# Altium schematic symbol library Microcontrollers$.SchLib: 16 symbols
Pins are listed as number, name and electrical type; pins without a type are passive.

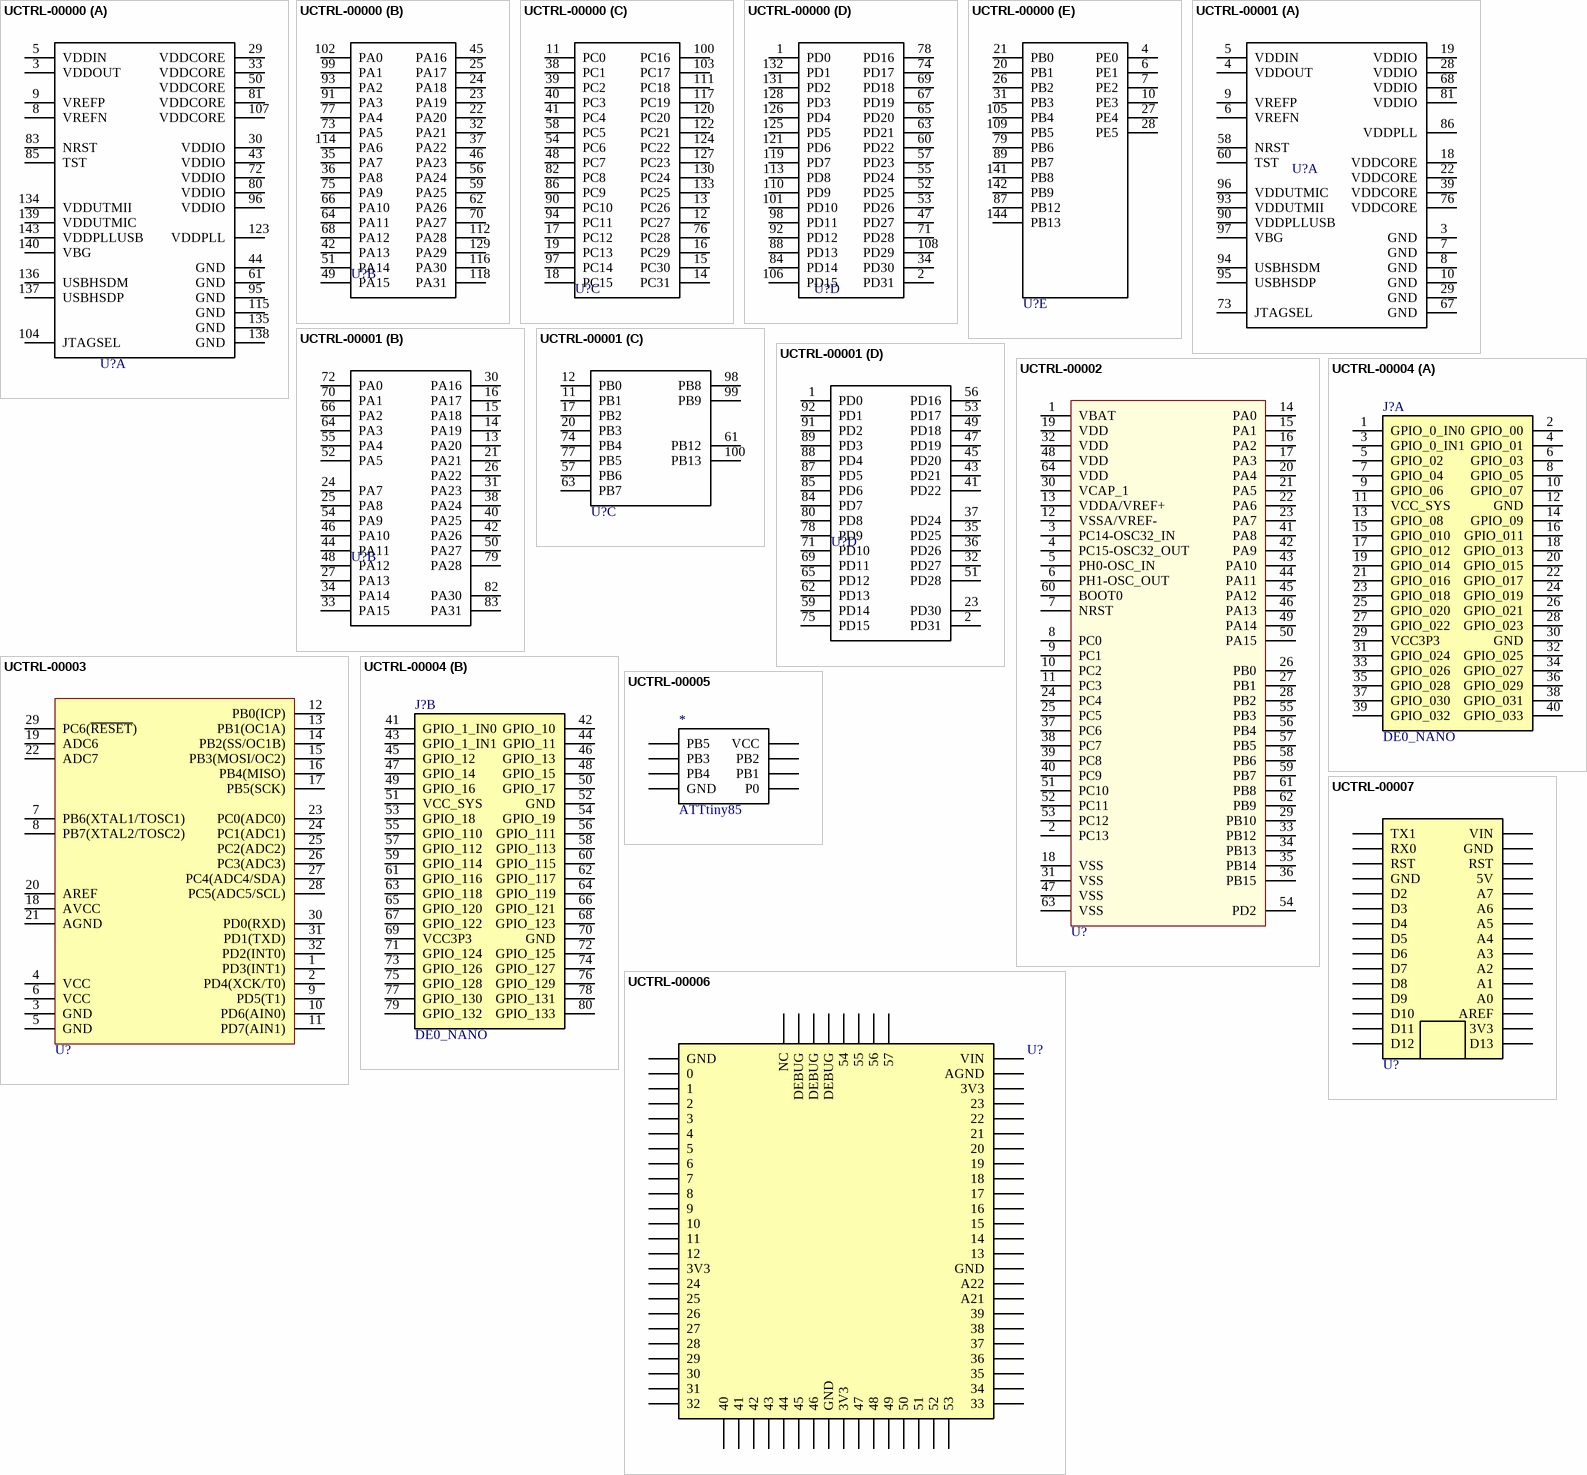
[diagram p0: symbols UCTRL-00000 to UCTRL-00007]

## UCTRL-00000
designator U?, comment ATSAME70Q21A-AN  (value not drawn)
Atmel SAM E70, LQFP144; Part Number: UCTRL-00000; Manufacturer: Atmel; Manufacturer PN: ATSAME70Q21A-AN
footprint LQFP144_0
part A pins: 3 VDDOUT, 5 VDDIN, 8 VREFN, 9 VREFP, 29 VDDCORE, 30 VDDIO, 33 VDDCORE, 43 VDDIO, 44 GND, 50 VDDCORE, 61 GND, 72 VDDIO, 80 VDDIO, 81 VDDCORE, 83 NRST, 85 TST, 95 GND, 96 VDDIO, 104 JTAGSEL, 107 VDDCORE, 115 GND, 123 VDDPLL, 134 VDDUTMII, 135 GND, 136 USBHSDM, 137 USBHSDP, 138 GND, 139 VDDUTMIC, 140 VBG, 143 VDDPLLUSB
part B pins: 22 PA20, 23 PA19, 24 PA18, 25 PA17, 32 PA21, 35 PA7, 36 PA8, 37 PA22, 42 PA13, 45 PA16, 46 PA23, 49 PA15, 51 PA14, 56 PA24, 59 PA25, 62 PA26, 64 PA11, 66 PA10, 68 PA12, 70 PA27, 73 PA5, 75 PA9, 77 PA4, 91 PA3, 93 PA2, 99 PA1, 102 PA0, 112 PA28, 114 PA6, 116 PA30, 118 PA31, 129 PA29
part C pins: 11 PC0, 12 PC27, 13 PC26, 14 PC31, 15 PC30, 16 PC29, 17 PC12, 18 PC15, 19 PC13, 38 PC1, 39 PC2, 40 PC3, 41 PC4, 48 PC7, 54 PC6, 58 PC5, 76 PC28, 82 PC8, 86 PC9, 90 PC10, 94 PC11, 97 PC14, 100 PC16, 103 PC17, 111 PC18, 117 PC19, 120 PC20, 122 PC21, 124 PC22, 127 PC23, 130 PC24, 133 PC25
part D pins: 1 PD0, 2 PD31, 34 PD30, 47 PD27, 52 PD25, 53 PD26, 55 PD24, 57 PD23, 60 PD22, 63 PD21, 65 PD20, 67 PD19, 69 PD18, 71 PD28, 74 PD17, 78 PD16, 84 PD14, 88 PD13, 92 PD12, 98 PD11, 101 PD10, 106 PD15, 108 PD29, 110 PD9, 113 PD8, 119 PD7, 121 PD6, 125 PD5, 126 PD4, 128 PD3, 131 PD2, 132 PD1
part E pins: 4 PE0, 6 PE1, 7 PE2, 10 PE3, 20 PB1, 21 PB0, 26 PB2, 27 PE4, 28 PE5, 31 PB3, 79 PB6, 87 PB12, 89 PB7, 105 PB4, 109 PB5, 141 PB8, 142 PB9, 144 PB13

## UCTRL-00001
designator U?, comment ATSAME70N21A-AN  (value not drawn)
Atmel SAM E70, LQFP100; Part Number: UCTRL-00001; Manufacturer: Atmel; Manufacturer PN: ATSAME70N21A-AN
footprint LQFP100_0
part A pins: 3 GND (power), 4 VDDOUT (power), 5 VDDIN (power), 6 VREFN (power), 7 GND (power), 8 GND (power), 9 VREFP (power), 10 GND (power), 18 VDDCORE (power), 19 VDDIO (power), 22 VDDCORE (power), 28 VDDIO (power), 29 GND (power), 39 VDDCORE (power), 58 NRST (power), 60 TST (power), 67 GND (power), 68 VDDIO (power), 73 JTAGSEL (power), 76 VDDCORE (power), 81 VDDIO (power), 86 VDDPLL (power), 90 VDDPLLUSB (power), 93 VDDUTMII (power), 94 USBHSDM (power), 95 USBHSDP (power), 96 VDDUTMIC (power), 97 VBG (power)
part B pins: 13 PA20, 14 PA19, 15 PA18, 16 PA17, 21 PA21, 24 PA7, 25 PA8, 26 PA22, 27 PA13, 30 PA16, 31 PA23, 33 PA15, 34 PA14, 38 PA24, 40 PA25, 42 PA26, 44 PA11, 46 PA10, 48 PA12, 50 PA27, 52 PA5, 54 PA9, 55 PA4, 64 PA3, 66 PA2, 70 PA1, 72 PA0, 79 PA28, 82 PA30, 83 PA31
part C pins: 11 PB1, 12 PB0, 17 PB2, 20 PB3, 57 PB6, 61 PB12, 63 PB7, 74 PB4, 77 PB5, 98 PB8, 99 PB9, 100 PB13
part D pins: 1 PD0, 2 PD31, 23 PD30, 32 PD27, 35 PD25, 36 PD26, 37 PD24, 41 PD22, 43 PD21, 45 PD20, 47 PD19, 49 PD18, 51 PD28, 53 PD17, 56 PD16, 59 PD14, 62 PD13, 65 PD12, 69 PD11, 71 PD10, 75 PD15, 78 PD9, 80 PD8, 84 PD7, 85 PD6, 87 PD5, 88 PD4, 89 PD3, 91 PD2, 92 PD1

## UCTRL-00002
designator U?, comment STM32F446_64_0  (value not drawn)
STM32F4 Series, 32-bit ARM M4, 180MHz, LQFP64; Part Number: UCTRL-00002; Manufacturer: ST; Manufacturer PN: STM32F446RET6
footprint LQFP64_0
pins: 1 VBAT, 2 PC13, 3 PC14-OSC32_IN, 4 PC15-OSC32_OUT, 5 PH0-OSC_IN, 6 PH1-OSC_OUT, 7 NRST, 8 PC0, 9 PC1, 10 PC2, 11 PC3, 12 VSSA/VREF-, 13 VDDA/VREF+, 14 PA0, 15 PA1, 16 PA2, 17 PA3, 18 VSS, 19 VDD, 20 PA4, 21 PA5, 22 PA6, 23 PA7, 24 PC4, 25 PC5, 26 PB0, 27 PB1, 28 PB2, 29 PB10, 30 VCAP_1, 31 VSS, 32 VDD, 33 PB12, 34 PB13, 35 PB14, 36 PB15, 37 PC6, 38 PC7, 39 PC8, 40 PC9, 41 PA8, 42 PA9, 43 PA10, 44 PA11, 45 PA12, 46 PA13, 47 VSS, 48 VDD, 49 PA14, 50 PA15, 51 PC10, 52 PC11, 53 PC12, 54 PD2, 55 PB3, 56 PB4, 57 PB5, 58 PB6, 59 PB7, 60 BOOT0, 61 PB8, 62 PB9, 63 VSS, 64 VDD

## UCTRL-00003
designator U?, comment ATMEGA328P  (value not drawn)
Atmel AVR 328P, LQFP32; Part Number: UCTRL-00003; Manufacturer: Atmel; Manufacturer PN: ATMEGA328P
footprint LQFP32_0
pins: 1 PD3(INT1), 2 PD4(XCK/T0), 3 GND, 4 VCC, 5 GND, 6 VCC, 7 PB6(XTAL1/TOSC1), 8 PB7(XTAL2/TOSC2), 9 PD5(T1), 10 PD6(AIN0), 11 PD7(AIN1), 12 PB0(ICP), 13 PB1(OC1A), 14 PB2(SS/OC1B), 15 PB3(MOSI/OC2), 16 PB4(MISO), 17 PB5(SCK), 18 AVCC, 19 ADC6, 20 AREF, 21 AGND, 22 ADC7, 23 PC0(ADC0), 24 PC1(ADC1), 25 PC2(ADC2), 26 PC3(ADC3), 27 PC4(ADC4/SDA), 28 PC5(ADC5/SCL), 29 PC6(~{RESET}), 30 PD0(RXD), 31 PD1(TXD), 32 PD2(INT0)

## UCTRL-00004
designator J?, comment DE0_NANO
DE0 Nano, FPGA dev board; Part Number: UCTRL-00004; Manufacturer: Terasic; Manufacturer PN: DE0-NANO
footprint DE0_NANO
part A pins: 1 GPIO_0_IN0, 2 GPIO_00, 3 GPIO_0_IN1, 4 GPIO_01, 5 GPIO_02, 6 GPIO_03, 7 GPIO_04, 8 GPIO_05, 9 GPIO_06, 10 GPIO_07, 11 VCC_SYS, 12 GND, 13 GPIO_08, 14 GPIO_09, 15 GPIO_010, 16 GPIO_011, 17 GPIO_012, 18 GPIO_013, 19 GPIO_014, 20 GPIO_015, 21 GPIO_016, 22 GPIO_017, 23 GPIO_018, 24 GPIO_019, 25 GPIO_020, 26 GPIO_021, 27 GPIO_022, 28 GPIO_023, 29 VCC3P3, 30 GND, 31 GPIO_024, 32 GPIO_025, 33 GPIO_026, 34 GPIO_027, 35 GPIO_028, 36 GPIO_029, 37 GPIO_030, 38 GPIO_031, 39 GPIO_032, 40 GPIO_033
part B pins: 41 GPIO_1_IN0, 42 GPIO_10, 43 GPIO_1_IN1, 44 GPIO_11, 45 GPIO_12, 46 GPIO_13, 47 GPIO_14, 48 GPIO_15, 49 GPIO_16, 50 GPIO_17, 51 VCC_SYS, 52 GND, 53 GPIO_18, 54 GPIO_19, 55 GPIO_110, 56 GPIO_111, 57 GPIO_112, 58 GPIO_113, 59 GPIO_114, 60 GPIO_115, 61 GPIO_116, 62 GPIO_117, 63 GPIO_118, 64 GPIO_119, 65 GPIO_120, 66 GPIO_121, 67 GPIO_122, 68 GPIO_123, 69 VCC3P3, 70 GND, 71 GPIO_124, 72 GPIO_125, 73 GPIO_126, 74 GPIO_127, 75 GPIO_128, 76 GPIO_129, 77 GPIO_130, 78 GPIO_131, 79 GPIO_132, 80 GPIO_133

## UCTRL-00005
designator *, comment ATTtiny85
ATtiny85, 8-bit AVR, 8k; Part Number: UCTRL-00005; Manufacturer: Atmel; Manufacturer PN: ATTINY85-20SU
footprint SO-8
pins: 1 PB5, 2 PB3, 3 PB4, 4 GND, 5 P0, 6 PB1, 7 PB2, 8 VCC

## UCTRL-00006
designator U?, comment Teensy3-6  (value not drawn)
Teensy 3.6, 32-bit ARM; Part Number: UCTRL-00006
footprint TEENSY_3_6
pins: 1 GND, 2 VIN, 3 0, 4 AGND, 5 1, 6 3V3, 7 2, 8 23, 9 3, 10 22, 11 4, 12 21, 13 5, 14 20, 15 6, 16 19, 17 7, 18, 19 8, 20 17, 21 9, 22 16, 23 10, 24 15, 25 11, 26 14, 27 12, 28 13, 29 3V3, 30 GND, 31 24, 32 A22, 33 25, 34 A21, 35 26, 36 39, 37 27, 38, 39 28, 40 37, 41 29, 42 36, 43 30, 44 35, 45 31, 46 34, 47 32, 48 33, 49 40, 50 41, 51 42, 52 43, 53 44, 54 45, 55 46, 56 GND, 57 3V3, 58 47, 59 48, 60 49, 61 50, 62 51, 63 52, 64 53, 65 NC, 66 DEBUG, 67 DEBUG, 68 DEBUG, 69 54, 70 55, 71 56, 72 57

## UCTRL-00007
designator U?, comment ARDUINO_NANO  (value not drawn)
Arduino Nano, ATMega328 Dev Board; Part Number: UCTRL-00007
footprint ARDUINO_NANO
pins: 1 TX1, 2 RX0, 3 RST, 4 GND, 5 D2, 6 D3, 7 D4, 8 D5, 9 D6, 10 D7, 11 D8, 12 D9, 13 D10, 14 D11, 15 D12, 16 D13, 17 3V3, 18 AREF, 19 A0, 20 A1, 21 A2, 22 A3, 23 A4, 24 A5, 25 A6, 26 A7, 27 5V, 28 RST, 29 GND, 30 VIN

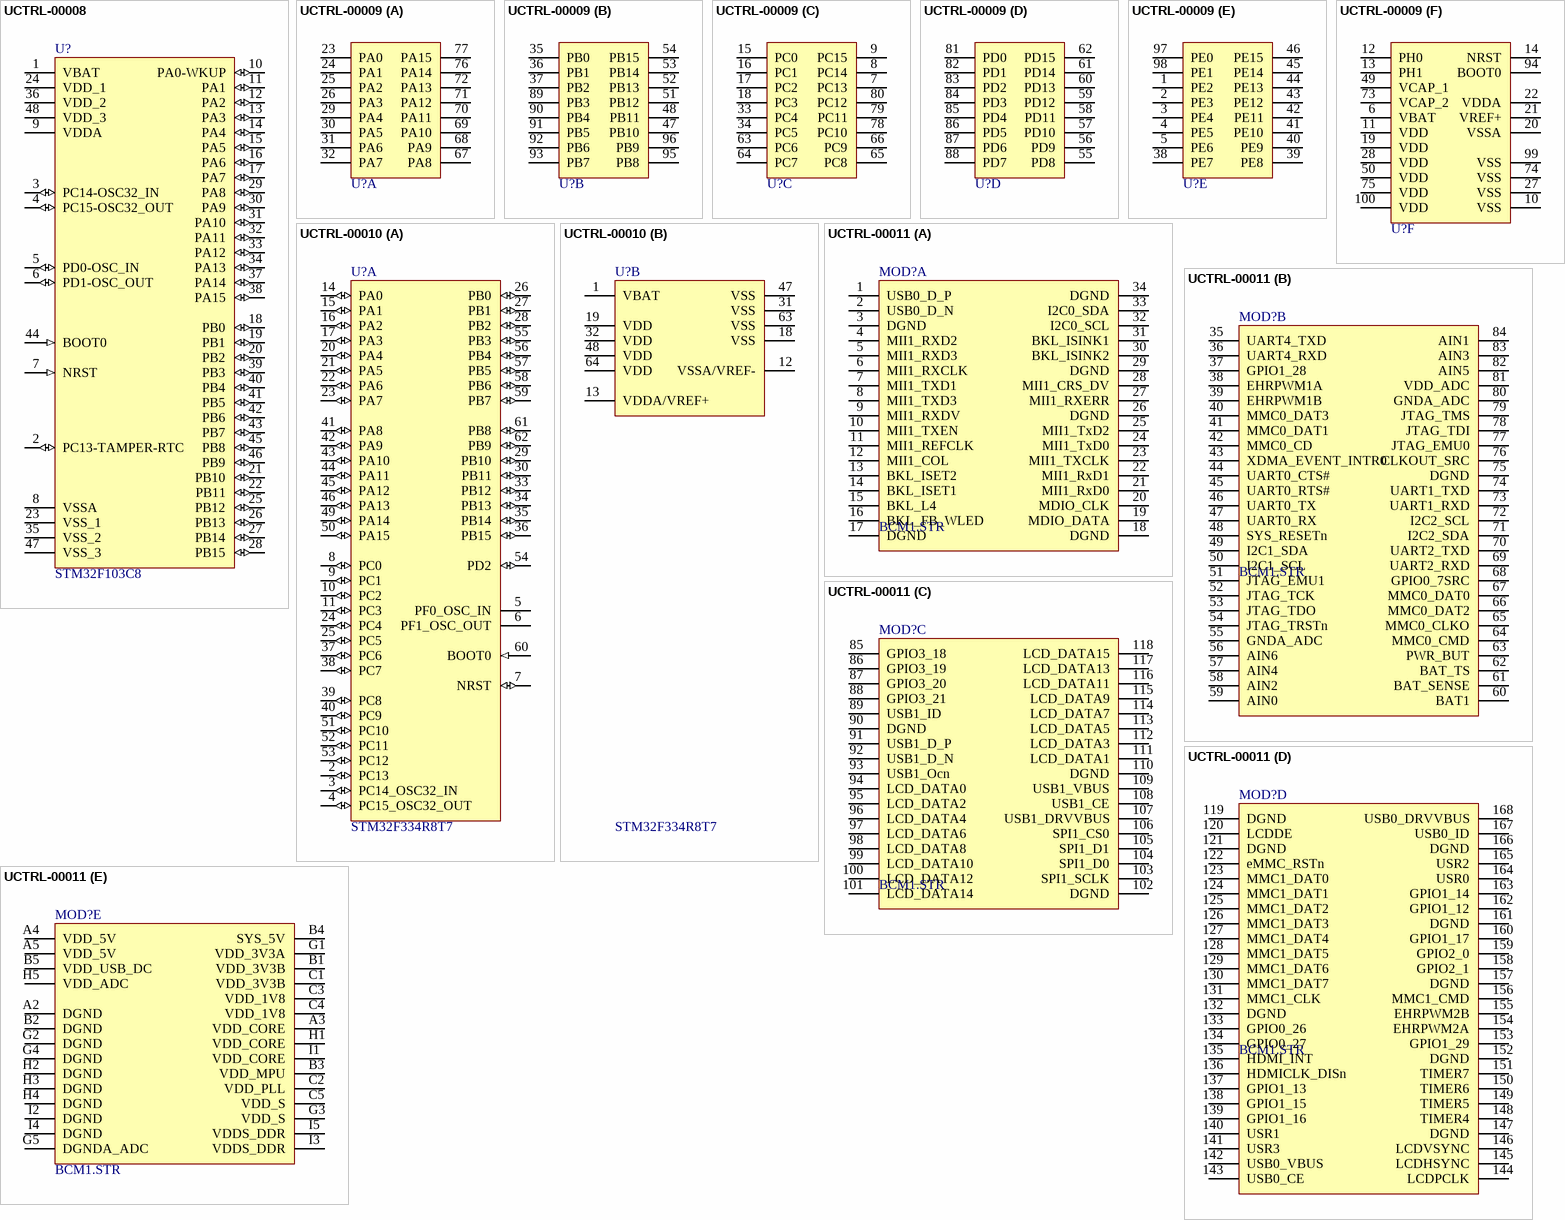
[diagram p1: symbols UCTRL-00008 to UCTRL-00011]

## UCTRL-00008
designator U?, comment STM32F103C8
STM32 M3, LQFP-48; Part Number: UCTRL-00008; Manufacturer: ST; Manufacturer PN: STM32F103C8
footprint LQFP48_0
pins: 1 VBAT, 2 PC13-TAMPER-RTC (io), 3 PC14-OSC32_IN (io), 4 PC15-OSC32_OUT (io), 5 PD0-OSC_IN (io), 6 PD1-OSC_OUT (io), 7 NRST (in), 8 VSSA (power), 9 VDDA (power), 10 PA0-WKUP (io), 11 PA1 (io), 12 PA2 (io), 13 PA3 (io), 14 PA4 (io), 15 PA5 (io), 16 PA6 (io), 17 PA7 (io), 18 PB0 (io), 19 PB1 (io), 20 PB2 (io), 21 PB10 (io), 22 PB11 (io), 23 VSS_1 (power), 24 VDD_1 (power), 25 PB12 (io), 26 PB13 (io), 27 PB14 (io), 28 PB15 (io), 29 PA8 (io), 30 PA9 (io), 31 PA10 (io), 32 PA11 (io), 33 PA12 (io), 34 PA13 (io), 35 VSS_2 (power), 36 VDD_2 (power), 37 PA14 (io), 38 PA15 (io), 39 PB3 (io), 40 PB4 (io), 41 PB5 (io), 42 PB6 (io), 43 PB7 (io), 44 BOOT0 (in), 45 PB8 (io), 46 PB9 (io), 47 VSS_3 (power), 48 VDD_3 (power)

## UCTRL-00009
designator U?, comment STM32F427VIT6  (value not drawn)
STM32F427 ARM Cortex-M4, LQFP-100; Part Number: UCTRL-00009; Manufacturer: ST; Manufacturer PN: STM32F427VIT6
footprint LQFP100_0
part A pins: 23 PA0, 24 PA1, 25 PA2, 26 PA3, 29 PA4, 30 PA5, 31 PA6, 32 PA7, 67 PA8, 68 PA9, 69 PA10, 70 PA11, 71 PA12, 72 PA13, 76 PA14, 77 PA15
part B pins: 35 PB0, 36 PB1, 37 PB2, 47 PB10, 48 PB11, 51 PB12, 52 PB13, 53 PB14, 54 PB15, 89 PB3, 90 PB4, 91 PB5, 92 PB6, 93 PB7, 95 PB8, 96 PB9
part C pins: 7 PC13, 8 PC14, 9 PC15, 15 PC0, 16 PC1, 17 PC2, 18 PC3, 33 PC4, 34 PC5, 63 PC6, 64 PC7, 65 PC8, 66 PC9, 78 PC10, 79 PC11, 80 PC12
part D pins: 55 PD8, 56 PD9, 57 PD10, 58 PD11, 59 PD12, 60 PD13, 61 PD14, 62 PD15, 81 PD0, 82 PD1, 83 PD2, 84 PD3, 85 PD4, 86 PD5, 87 PD6, 88 PD7
part E pins: 1 PE2, 2 PE3, 3 PE4, 4 PE5, 5 PE6, 38 PE7, 39 PE8, 40 PE9, 41 PE10, 42 PE11, 43 PE12, 44 PE13, 45 PE14, 46 PE15, 97 PE0, 98 PE1
part F pins: 6 VBAT, 10 VSS, 11 VDD, 12 PH0, 13 PH1, 14 NRST, 19 VDD, 20 VSSA, 21 VREF+, 22 VDDA, 27 VSS, 28 VDD, 49 VCAP_1, 50 VDD, 73 VCAP_2, 74 VSS, 75 VDD, 94 BOOT0, 99 VSS, 100 VDD

## UCTRL-00010
designator U?, comment STM32F334R8T7
STM32F334 ARM Cortex-M4, LQFP-64; Part Number: UCTRL-00010; Manufacturer: ST; Manufacturer PN: STM32F334R8T7
footprint LQFP64_0
part A pins: 2 PC13 (io), 3 PC14_OSC32_IN (io), 4 PC15_OSC32_OUT (io), 5 PF0_OSC_IN (power), 6 PF1_OSC_OUT (power), 7 NRST (io), 8 PC0 (io), 9 PC1 (io), 10 PC2 (io), 11 PC3 (io), 14 PA0 (io), 15 PA1 (io), 16 PA2 (io), 17 PA3 (io), 20 PA4 (io), 21 PA5 (io), 22 PA6 (io), 23 PA7 (io), 24 PC4 (io), 25 PC5 (io), 26 PB0 (io), 27 PB1 (io), 28 PB2 (io), 29 PB10 (io), 30 PB11 (io), 33 PB12 (io), 34 PB13 (io), 35 PB14 (io), 36 PB15 (io), 37 PC6 (io), 38 PC7 (io), 39 PC8 (io), 40 PC9 (io), 41 PA8 (io), 42 PA9 (io), 43 PA10 (io), 44 PA11 (io), 45 PA12 (io), 46 PA13 (io), 49 PA14 (io), 50 PA15 (io), 51 PC10 (io), 52 PC11 (io), 53 PC12 (io), 54 PD2 (io), 55 PB3 (io), 56 PB4 (io), 57 PB5 (io), 58 PB6 (io), 59 PB7 (io), 60 BOOT0 (in), 61 PB8 (io), 62 PB9 (io)
part B pins: 1 VBAT (power), 12 VSSA/VREF-, 13 VDDA/VREF+, 18 VSS (power), 19 VDD (power), 31 VSS (power), 32 VDD (power), 47 VSS (power), 48 VDD (power), 63 VSS (power), 64 VDD (power)

## UCTRL-00011
designator MOD?, comment BCM1.STR
BeagleCore BCM1, System-On-Module (SOM); Part Number: UCTRL-00011; Manufacturer: BeagleCore; Manufacturer PN: BCM1.STR
footprint BEAGLECORE_BCM1
part A pins: 1 USB0_D_P, 2 USB0_D_N, 3 DGND, 4 MII1_RXD2, 5 MII1_RXD3, 6 MII1_RXCLK, 7 MII1_TXD1, 8 MII1_TXD3, 9 MII1_RXDV, 10 MII1_TXEN, 11 MII1_REFCLK, 12 MII1_COL, 13 BKL_ISET2, 14 BKL_ISET1, 15 BKL_L4, 16 BKL_FB_WLED, 17 DGND, 18 DGND, 19 MDIO_DATA, 20 MDIO_CLK, 21 MII1_RxD0, 22 MII1_RxD1, 23 MII1_TXCLK, 24 MII1_TxD0, 25 MII1_TxD2, 26 DGND, 27 MII1_RXERR, 28 MII1_CRS_DV, 29 DGND, 30 BKL_ISINK2, 31 BKL_ISINK1, 32 I2C0_SCL, 33 I2C0_SDA, 34 DGND
part B pins: 35 UART4_TXD, 36 UART4_RXD, 37 GPIO1_28, 38 EHRPWM1A, 39 EHRPWM1B, 40 MMC0_DAT3, 41 MMC0_DAT1, 42 MMC0_CD, 43 XDMA_EVENT_INTR0, 44 UART0_CTS#, 45 UART0_RTS#, 46 UART0_TX, 47 UART0_RX, 48 SYS_RESETn, 49 I2C1_SDA, 50 I2C1_SCL, 51 JTAG_EMU1, 52 JTAG_TCK, 53 JTAG_TDO, 54 JTAG_TRSTn, 55 GNDA_ADC, 56 AIN6, 57 AIN4, 58 AIN2, 59 AIN0, 60 BAT1, 61 BAT_SENSE, 62 BAT_TS, 63 PWR_BUT, 64 MMC0_CMD, 65 MMC0_CLKO, 66 MMC0_DAT2, 67 MMC0_DAT0, 68 GPIO0_7SRC, 69 UART2_RXD, 70 UART2_TXD, 71 I2C2_SDA, 72 I2C2_SCL, 73 UART1_RXD, 74 UART1_TXD, 75 DGND, 76 CLKOUT_SRC, 77 JTAG_EMU0, 78 JTAG_TDI, 79 JTAG_TMS, 80 GNDA_ADC, 81 VDD_ADC, 82 AIN5, 83 AIN3, 84 AIN1
part C pins: 85 GPIO3_18, 86 GPIO3_19, 87 GPIO3_20, 88 GPIO3_21, 89 USB1_ID, 90 DGND, 91 USB1_D_P, 92 USB1_D_N, 93 USB1_Ocn, 94 LCD_DATA0, 95 LCD_DATA2, 96 LCD_DATA4, 97 LCD_DATA6, 98 LCD_DATA8, 99 LCD_DATA10, 100 LCD_DATA12, 101 LCD_DATA14, 102 DGND, 103 SPI1_SCLK, 104 SPI1_D0, 105 SPI1_D1, 106 SPI1_CS0, 107 USB1_DRVVBUS, 108 USB1_CE, 109 USB1_VBUS, 110 DGND, 111 LCD_DATA1, 112 LCD_DATA3, 113 LCD_DATA5, 114 LCD_DATA7, 115 LCD_DATA9, 116 LCD_DATA11, 117 LCD_DATA13, 118 LCD_DATA15
part D pins: 119 DGND, 120 LCDDE, 121 DGND, 122 eMMC_RSTn, 123 MMC1_DAT0, 124 MMC1_DAT1, 125 MMC1_DAT2, 126 MMC1_DAT3, 127 MMC1_DAT4, 128 MMC1_DAT5, 129 MMC1_DAT6, 130 MMC1_DAT7, 131 MMC1_CLK, 132 DGND, 133 GPIO0_26, 134 GPIO0_27, 135 HDMI_INT, 136 HDMICLK_DISn, 137 GPIO1_13, 138 GPIO1_15, 139 GPIO1_16, 140 USR1, 141 USR3, 142 USB0_VBUS, 143 USB0_CE, 144 LCDPCLK, 145 LCDHSYNC, 146 LCDVSYNC, 147 DGND, 148 TIMER4, 149 TIMER5, 150 TIMER6, 151 TIMER7, 152 DGND, 153 GPIO1_29, 154 EHRPWM2A, 155 EHRPWM2B, 156 MMC1_CMD, 157 DGND, 158 GPIO2_1, 159 GPIO2_0, 160 GPIO1_17, 161 DGND, 162 GPIO1_12, 163 GPIO1_14, 164 USR0, 165 USR2, 166 DGND, 167 USB0_ID, 168 USB0_DRVVBUS
part E pins: A2 DGND, A3 VDD_CORE, A4 VDD_5V, A5 VDD_5V, B1 VDD_3V3B, B2 DGND, B3 VDD_MPU, B4 SYS_5V, B5 VDD_USB_DC, C1 VDD_3V3B, C2 VDD_PLL, C3 VDD_1V8, C4 VDD_1V8, C5 VDD_S, G1 VDD_3V3A, G2 DGND, G3 VDD_S, G4 DGND, G5 DGNDA_ADC, H1 VDD_CORE, H2 DGND, H3 DGND, H4 DGND, H5 VDD_ADC, I1 VDD_CORE, I2 DGND, I3 VDDS_DDR, I4 DGND, I5 VDDS_DDR

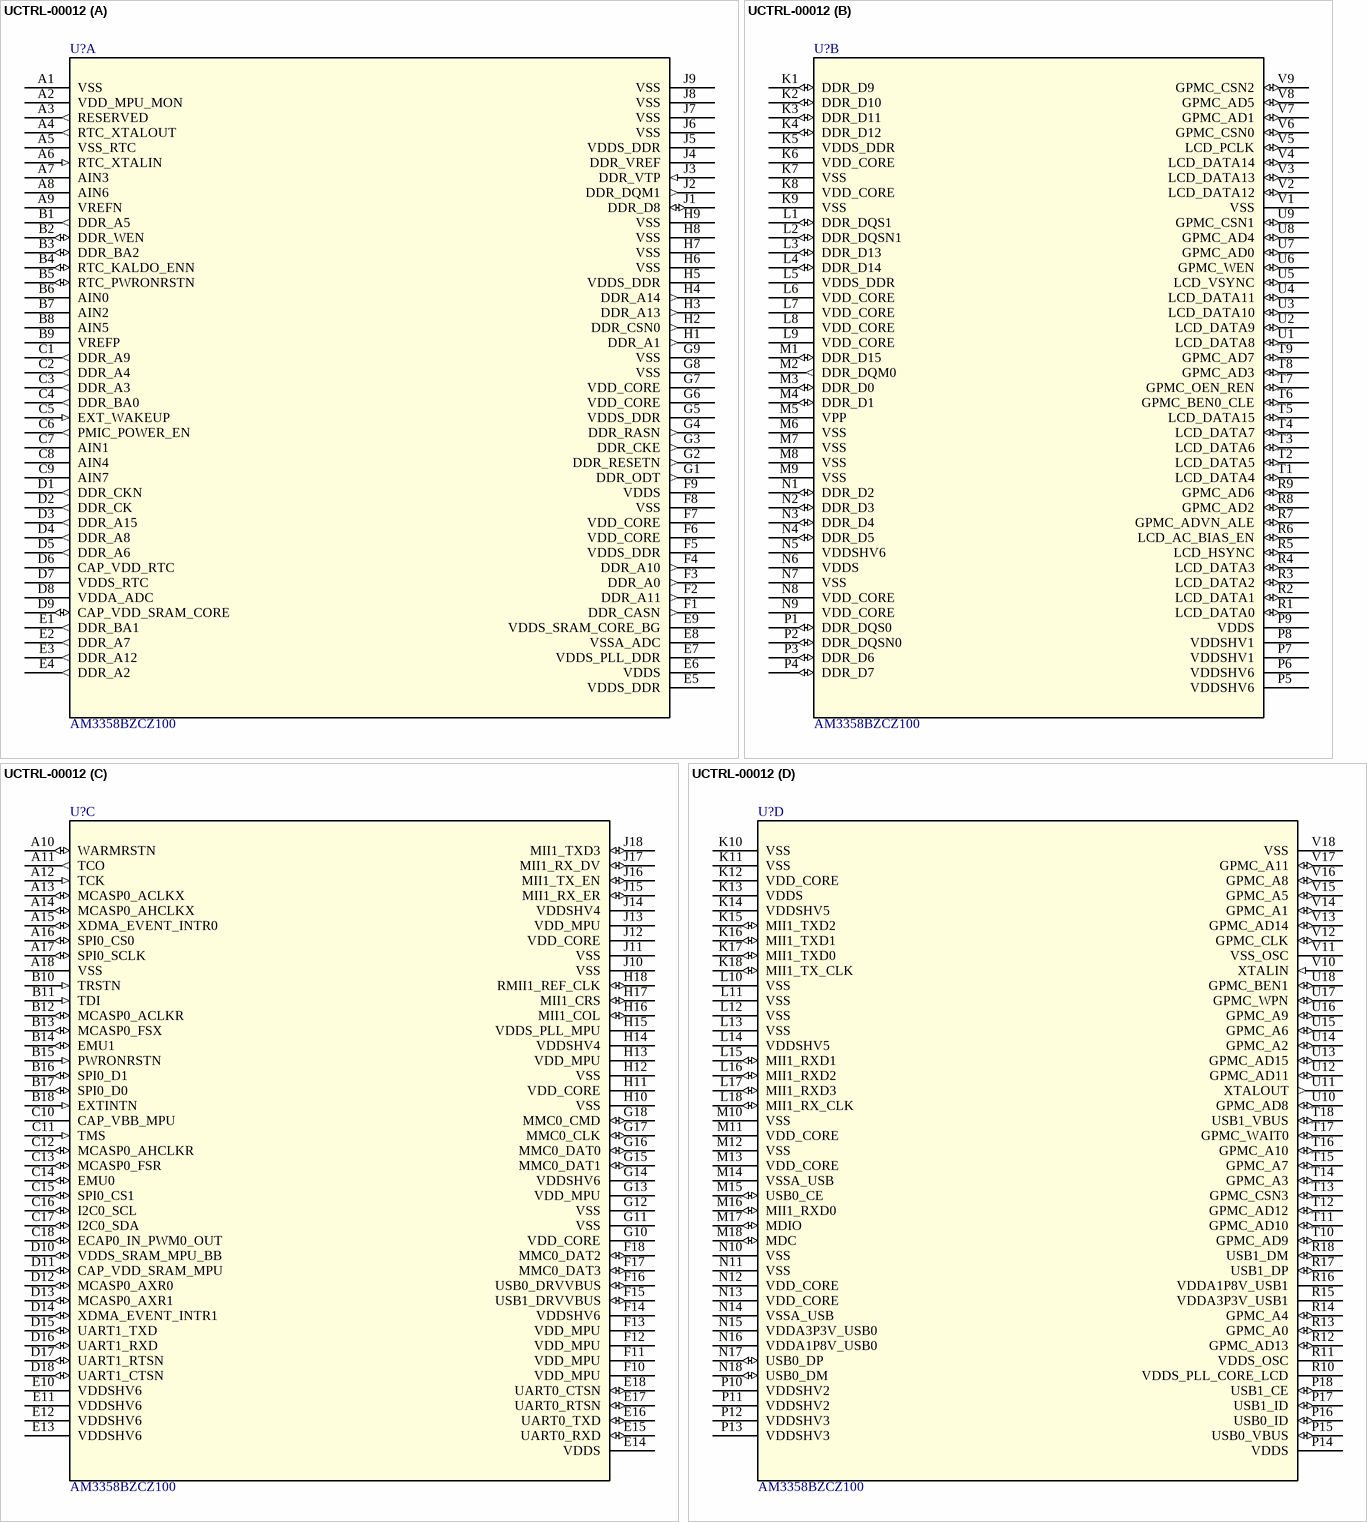
[diagram p2: symbol UCTRL-00012]

## UCTRL-00012
designator U?, comment AM3358BZCZ100
MPU SITARA A8-Cortex 1.0GHz 324-NFBGA; Part Number: UCTRL-00012; Manufacturer: TI; Manufacturer PN: AM3358BZCZ100
footprint 324-NFBGA-15x15
part A pins: A1 VSS (power), A2 VDD_MPU_MON (power), A3 RESERVED (out), A4 RTC_XTALOUT (out), A5 VSS_RTC (power), A6 RTC_XTALIN (in), A7 AIN3, A8 AIN6, A9 VREFN (power), B1 DDR_A5 (out), B2 DDR_WEN (io), B3 DDR_BA2 (io), B4 RTC_KALDO_ENN (io), B5 RTC_PWRONRSTN (io), B6 AIN0, B7 AIN2, B8 AIN5, B9 VREFP (power), C1 DDR_A9 (out), C2 DDR_A4 (out), C3 DDR_A3 (out), C4 DDR_BA0 (out), C5 EXT_WAKEUP (in), C6 PMIC_POWER_EN (out), C7 AIN1, C8 AIN4, C9 AIN7, D1 DDR_CKN (out), D2 DDR_CK (out), D3 DDR_A15 (out), D4 DDR_A8 (out), D5 DDR_A6 (out), D6 CAP_VDD_RTC, D7 VDDS_RTC (power), D8 VDDA_ADC (power), D9 CAP_VDD_SRAM_CORE (io), E1 DDR_BA1 (out), E2 DDR_A7 (out), E3 DDR_A12 (out), E4 DDR_A2 (out), E5 VDDS_DDR (power), E6 VDDS (power), E7 VDDS_PLL_DDR (power), E8 VSSA_ADC (power), E9 VDDS_SRAM_CORE_BG (power), F1 DDR_CASN (out), F2 DDR_A11 (out), F3 DDR_A0 (out), F4 DDR_A10 (out), F5 VDDS_DDR (power), F6 VDD_CORE (power), F7 VDD_CORE (power), F8 VSS (power), F9 VDDS (power), G1 DDR_ODT (out), G2 DDR_RESETN (out), G3 DDR_CKE (out), G4 DDR_RASN (out), G5 VDDS_DDR (power), G6 VDD_CORE (power), G7 VDD_CORE (power), G8 VSS (power), G9 VSS (power), H1 DDR_A1 (out), H2 DDR_CSN0 (out), H3 DDR_A13 (out), H4 DDR_A14 (out), H5 VDDS_DDR (power), H6 VSS (power), H7 VSS (power), H8 VSS (power), H9 VSS (power), J1 DDR_D8 (io), J2 DDR_DQM1 (out), J3 DDR_VTP (in), J4 DDR_VREF, J5 VDDS_DDR (power), J6 VSS (power), J7 VSS (power), J8 VSS (power), J9 VSS (power)
part B pins: K1 DDR_D9 (io), K2 DDR_D10 (io), K3 DDR_D11 (io), K4 DDR_D12 (io), K5 VDDS_DDR (power), K6 VDD_CORE (power), K7 VSS (power), K8 VDD_CORE (power), K9 VSS (power), L1 DDR_DQS1 (io), L2 DDR_DQSN1 (io), L3 DDR_D13 (io), L4 DDR_D14 (io), L5 VDDS_DDR (power), L6 VDD_CORE (power), L7 VDD_CORE (power), L8 VDD_CORE (power), L9 VDD_CORE (power), M1 DDR_D15 (io), M2 DDR_DQM0 (out), M3 DDR_D0 (io), M4 DDR_D1 (io), M5 VPP (power), M6 VSS (power), M7 VSS (power), M8 VSS (power), M9 VSS (power), N1 DDR_D2 (io), N2 DDR_D3 (io), N3 DDR_D4 (io), N4 DDR_D5 (io), N5 VDDSHV6 (power), N6 VDDS (power), N7 VSS (power), N8 VDD_CORE (power), N9 VDD_CORE (power), P1 DDR_DQS0 (io), P2 DDR_DQSN0 (io), P3 DDR_D6 (io), P4 DDR_D7 (io), P5 VDDSHV6 (power), P6 VDDSHV6 (power), P7 VDDSHV1 (power), P8 VDDSHV1 (power), P9 VDDS (power), R1 LCD_DATA0 (io), R2 LCD_DATA1 (io), R3 LCD_DATA2 (io), R4 LCD_DATA3 (io), R5 LCD_HSYNC (io), R6 LCD_AC_BIAS_EN (io), R7 GPMC_ADVN_ALE (io), R8 GPMC_AD2 (io), R9 GPMC_AD6 (io), T1 LCD_DATA4 (io), T2 LCD_DATA5 (io), T3 LCD_DATA6 (io), T4 LCD_DATA7 (io), T5 LCD_DATA15 (io), T6 GPMC_BEN0_CLE (io), T7 GPMC_OEN_REN (io), T8 GPMC_AD3 (io), T9 GPMC_AD7 (io), U1 LCD_DATA8 (io), U2 LCD_DATA9 (io), U3 LCD_DATA10 (io), U4 LCD_DATA11 (io), U5 LCD_VSYNC (io), U6 GPMC_WEN (io), U7 GPMC_AD0 (io), U8 GPMC_AD4 (io), U9 GPMC_CSN1 (io), V1 VSS (power), V2 LCD_DATA12 (io), V3 LCD_DATA13 (io), V4 LCD_DATA14 (io), V5 LCD_PCLK (io), V6 GPMC_CSN0 (io), V7 GPMC_AD1 (io), V8 GPMC_AD5 (io), V9 GPMC_CSN2 (io)
part C pins: A10 WARMRSTN (io), A11 TCO (out), A12 TCK (in), A13 MCASP0_ACLKX (io), A14 MCASP0_AHCLKX (io), A15 XDMA_EVENT_INTR0 (io), A16 SPI0_CS0 (io), A17 SPI0_SCLK (io), A18 VSS (power), B10 TRSTN (in), B11 TDI (in), B12 MCASP0_ACLKR (io), B13 MCASP0_FSX (io), B14 EMU1 (io), B15 PWRONRSTN (in), B16 SPI0_D1 (io), B17 SPI0_D0 (io), B18 EXTINTN (in), C10 CAP_VBB_MPU, C11 TMS (in), C12 MCASP0_AHCLKR (io), C13 MCASP0_FSR (io), C14 EMU0 (io), C15 SPI0_CS1 (io), C16 I2C0_SCL (io), C17 I2C0_SDA (io), C18 ECAP0_IN_PWM0_OUT (io), D10 VDDS_SRAM_MPU_BB (io), D11 CAP_VDD_SRAM_MPU (io), D12 MCASP0_AXR0 (io), D13 MCASP0_AXR1 (io), D14 XDMA_EVENT_INTR1 (io), D15 UART1_TXD (io), D16 UART1_RXD (io), D17 UART1_RTSN (io), D18 UART1_CTSN (io), E10 VDDSHV6 (power), E11 VDDSHV6 (power), E12 VDDSHV6 (power), E13 VDDSHV6 (power), E14 VDDS (power), E15 UART0_RXD (io), E16 UART0_TXD (io), E17 UART0_RTSN (io), E18 UART0_CTSN (io), F10 VDD_MPU (power), F11 VDD_MPU (power), F12 VDD_MPU (power), F13 VDD_MPU (power), F14 VDDSHV6 (power), F15 USB1_DRVVBUS (io), F16 USB0_DRVVBUS (io), F17 MMC0_DAT3 (io), F18 MMC0_DAT2 (io), G10 VDD_CORE (power), G11 VSS (power), G12 VSS (power), G13 VDD_MPU (power), G14 VDDSHV6 (power), G15 MMC0_DAT1 (io), G16 MMC0_DAT0 (io), G17 MMC0_CLK (io), G18 MMC0_CMD (io), H10 VSS (power), H11 VDD_CORE (power), H12 VSS (power), H13 VDD_MPU (power), H14 VDDSHV4 (power), H15 VDDS_PLL_MPU (power), H16 MII1_COL (io), H17 MII1_CRS (io), H18 RMII1_REF_CLK (io), J10 VSS (power), J11 VSS (power), J12 VDD_CORE (power), J13 VDD_MPU (power), J14 VDDSHV4 (power), J15 MII1_RX_ER (io), J16 MII1_TX_EN (io), J17 MII1_RX_DV (io), J18 MII1_TXD3 (io)
part D pins: K10 VSS (power), K11 VSS (power), K12 VDD_CORE (power), K13 VDDS (power), K14 VDDSHV5 (power), K15 MII1_TXD2 (io), K16 MII1_TXD1 (io), K17 MII1_TXD0 (io), K18 MII1_TX_CLK (io), L10 VSS (power), L11 VSS (power), L12 VSS (power), L13 VSS (power), L14 VDDSHV5 (power), L15 MII1_RXD1 (io), L16 MII1_RXD2 (io), L17 MII1_RXD3 (io), L18 MII1_RX_CLK (io), M10 VSS (power), M11 VDD_CORE (power), M12 VSS (power), M13 VDD_CORE (power), M14 VSSA_USB (power), M15 USB0_CE (io), M16 MII1_RXD0 (io), M17 MDIO (io), M18 MDC (io), N10 VSS (power), N11 VSS (power), N12 VDD_CORE (power), N13 VDD_CORE (power), N14 VSSA_USB (power), N15 VDDA3P3V_USB0 (power), N16 VDDA1P8V_USB0 (power), N17 USB0_DP (io), N18 USB0_DM (io), P10 VDDSHV2 (power), P11 VDDSHV2 (power), P12 VDDSHV3 (power), P13 VDDSHV3 (power), P14 VDDS (power), P15 USB0_VBUS (io), P16 USB0_ID (io), P17 USB1_ID (io), P18 USB1_CE (io), R10 VDDS_PLL_CORE_LCD (power), R11 VDDS_OSC (power), R12 GPMC_AD13 (io), R13 GPMC_A0 (io), R14 GPMC_A4 (io), R15 VDDA3P3V_USB1 (power), R16 VDDA1P8V_USB1 (power), R17 USB1_DP (io), R18 USB1_DM (io), T10 GPMC_AD9 (io), T11 GPMC_AD10 (io), T12 GPMC_AD12 (io), T13 GPMC_CSN3 (io), T14 GPMC_A3 (io), T15 GPMC_A7 (io), T16 GPMC_A10 (io), T17 GPMC_WAIT0 (io), T18 USB1_VBUS (io), U10 GPMC_AD8 (io), U11 XTALOUT (out), U12 GPMC_AD11 (io), U13 GPMC_AD15 (io), U14 GPMC_A2 (io), U15 GPMC_A6 (io), U16 GPMC_A9 (io), U17 GPMC_WPN (io), U18 GPMC_BEN1 (io), V10 XTALIN (in), V11 VSS_OSC (power), V12 GPMC_CLK (io), V13 GPMC_AD14 (io), V14 GPMC_A1 (io), V15 GPMC_A5 (io), V16 GPMC_A8 (io), V17 GPMC_A11 (io), V18 VSS (power)

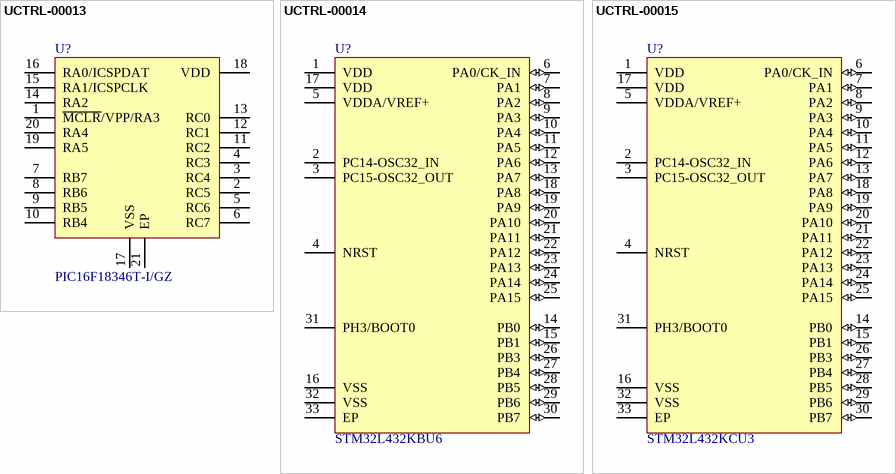
[diagram p3: symbols UCTRL-00013 to UCTRL-00015]

## UCTRL-00013
designator U?, comment PIC16F18346T-I/GZ
MCU, PIC XLP 16F, 8-bit, 32MHz, UQFN-20; Part Number: UCTRL-00013; Manufacturer: Microchip; Manufacturer PN: PIC16F18346T-I/GZ; Cost: $1.33; Distributor Link: https://www.digikey.com/en/products/detail/microchip-technology/PIC16F18346T-I-GZ/6055526
footprint UQFN-20-4x4-EP
pins: 1 ~{MCLR}/VPP/RA3, 2 RC5, 3 RC4, 4 RC3, 5 RC6, 6 RC7, 7 RB7, 8 RB6, 9 RB5, 10 RB4, 11 RC2, 12 RC1, 13 RC0, 14 RA2, 15 RA1/ICSPCLK, 16 RA0/ICSPDAT, 17 VSS, 18 VDD, 19 RA5, 20 RA4, 21 EP

## UCTRL-00014
designator U?, comment STM32L432KBU6
MCU, 32-bit ARM Cortex-M4, 80-MHz, 128kB Flash, STM32L432; Part Number: UCTRL-00014; Manufacturer: ST; Manufacturer PN: STM32L432KBU6; Cost: $5.22; Distributor Link: https://www.digikey.com/en/products/detail/stmicroelectronics/STM32L432KBU6/6132748
footprint UFQFPN-32-5x5-EP
pins: 1 VDD (power), 2 PC14-OSC32_IN, 3 PC15-OSC32_OUT, 4 NRST, 5 VDDA/VREF+ (power), 6 PA0/CK_IN (io), 7 PA1 (io), 8 PA2 (io), 9 PA3 (io), 10 PA4 (io), 11 PA5 (io), 12 PA6 (io), 13 PA7 (io), 14 PB0 (io), 15 PB1 (io), 16 VSS (power), 17 VDD (power), 18 PA8 (io), 19 PA9 (io), 20 PA10 (io), 21 PA11 (io), 22 PA12 (io), 23 PA13 (io), 24 PA14 (io), 25 PA15 (io), 26 PB3 (io), 27 PB4 (io), 28 PB5 (io), 29 PB6 (io), 30 PB7 (io), 31 PH3/BOOT0, 32 VSS (power), 33 EP (power)

## UCTRL-00015
designator U?, comment STM32L432KCU3
MCU, 32-bit ARM Cortex-M4, 80-MHz, 256kB Flash, STM32L432; Part Number: UCTRL-00015; Manufacturer: ST; Manufacturer PN: STM32L432KCU3; Cost: $7.20; Distributor Link: https://www.digikey.com/en/products/detail/stmicroelectronics/STM32L432KCU3/8257912
footprint UFQFPN-32-5x5-EP
pins: 1 VDD (power), 2 PC14-OSC32_IN, 3 PC15-OSC32_OUT, 4 NRST, 5 VDDA/VREF+ (power), 6 PA0/CK_IN (io), 7 PA1 (io), 8 PA2 (io), 9 PA3 (io), 10 PA4 (io), 11 PA5 (io), 12 PA6 (io), 13 PA7 (io), 14 PB0 (io), 15 PB1 (io), 16 VSS (power), 17 VDD (power), 18 PA8 (io), 19 PA9 (io), 20 PA10 (io), 21 PA11 (io), 22 PA12 (io), 23 PA13 (io), 24 PA14 (io), 25 PA15 (io), 26 PB3 (io), 27 PB4 (io), 28 PB5 (io), 29 PB6 (io), 30 PB7 (io), 31 PH3/BOOT0, 32 VSS (power), 33 EP (power)